# Altium footprint library Jump.PcbLib: 91 footprints (part 2 of 6)
Each footprint in its own frame and in the unit in brackets; x right, y up, seen from the top. Pads: shape width x height; smd on the part's side, far side on the other; paste and mask are expansions set on the pad; w line width, h text height; cw(c..) or ccw(c..) is an arc to the next point about the centre after c.
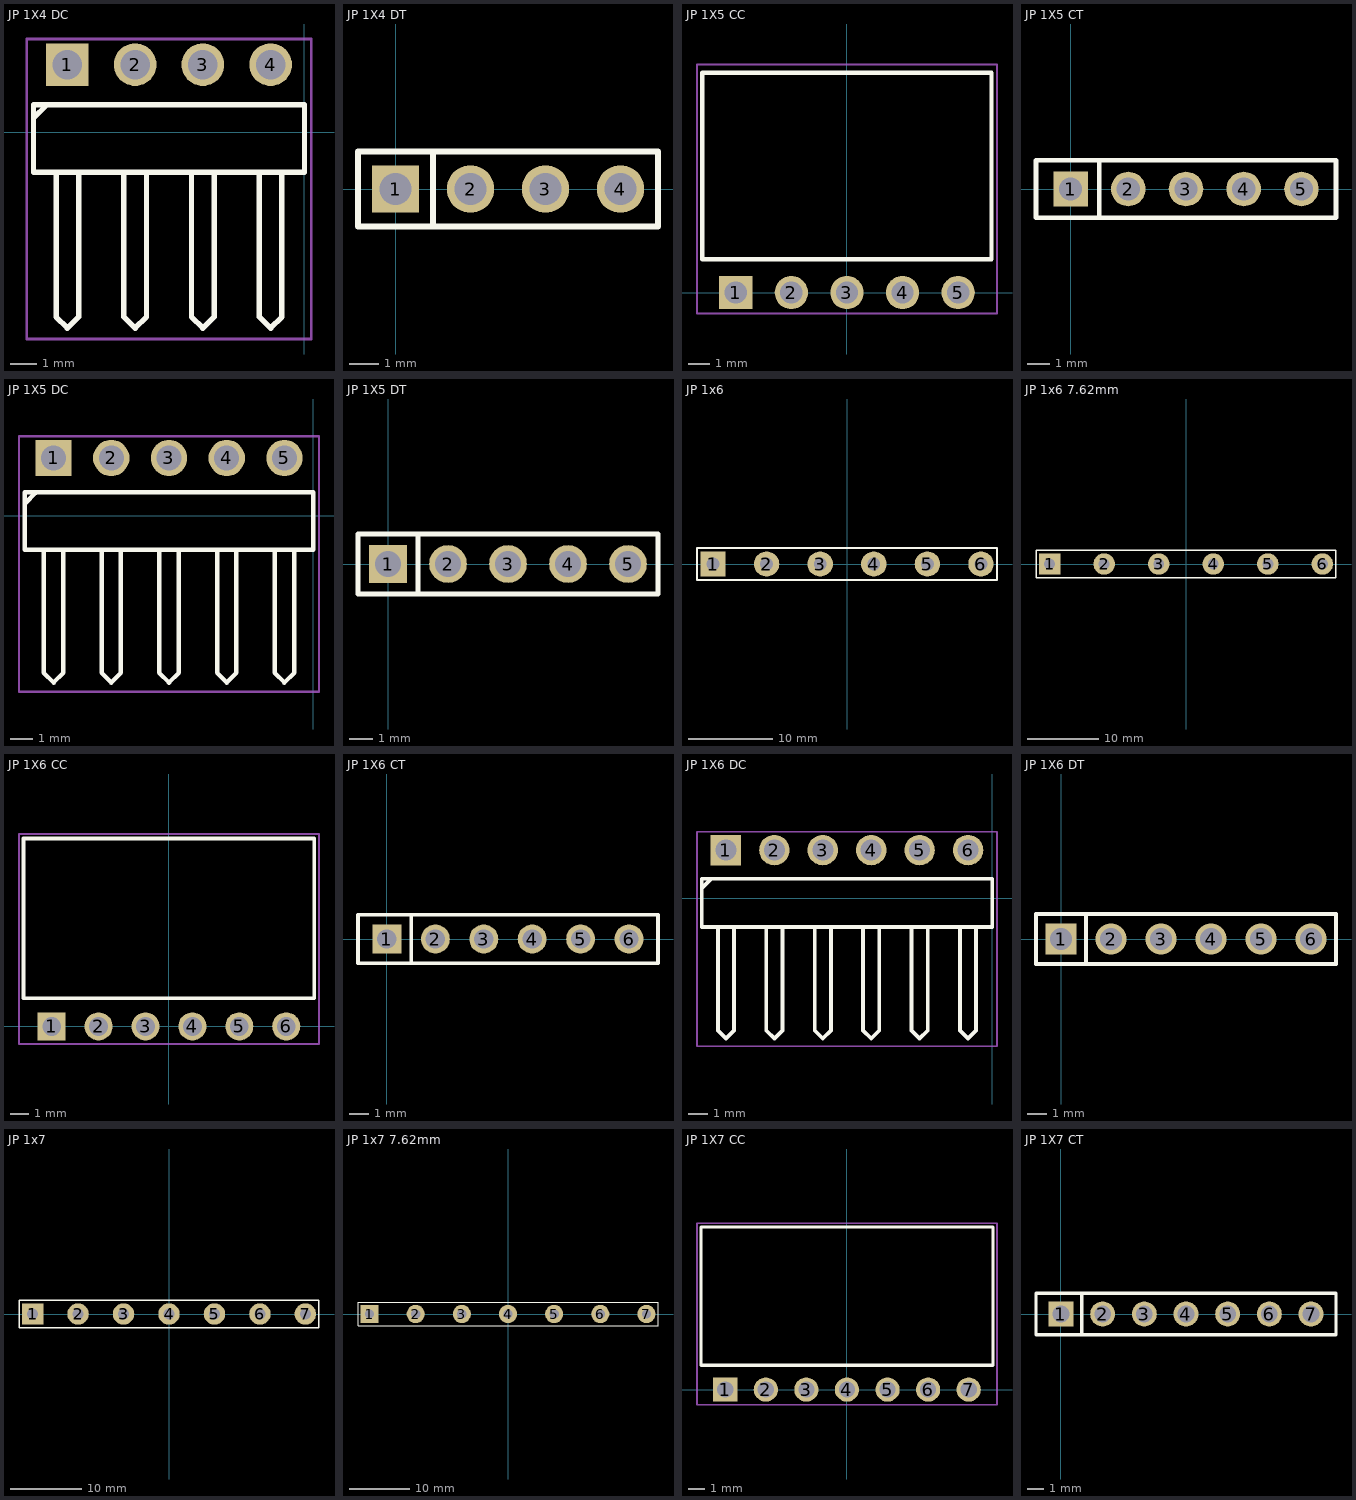
[diagram p1: the footprints below, top view; thin cyan lines are the x and y axes]

## JP 1X4 DC [mm] "4 pins, 1 row, right angled, gold plating"
height 2.54
pads (4):
  rect 1.6x1.6 hole 1.1: 1(-8.89,2.54)
  round 1.6 hole 1.1: 2(-6.35,2.54) 3(-3.81,2.54) 4(-1.27,2.54)
Top Overlay:
  lines w0.2: -10.118,0.574 -9.694,0.998 ; -9.313,-1.525 -9.313,-6.919 -8.89,-7.342 -8.467,-6.919 -8.467,-1.5 ; -6.773,-1.525 -6.773,-6.919 -6.35,-7.342 -5.927,-6.919 -5.927,-1.525 ; -4.233,-1.525 -4.233,-6.919 -3.81,-7.342 -3.387,-6.919 -3.387,-1.5 ; -1.693,-1.525 -1.693,-6.919 -1.27,-7.342 -0.847,-6.919 -0.847,-1.525 ; -10.16,-1.5 0,-1.5 0,1.04 -10.16,1.04 -10.16,-1.5
Mechanical 15:
  lines w0.1: -10.41,-7.75 -10.41,3.5 0.25,3.5 0.25,-7.75 -10.41,-7.75
3D body "61300411021.stp": height 2.54, standoff -3, extent -10.16,-7.566 0,2.794

## JP 1X4 DT [mm] "4 pins, 1 row, straight, gold plating"
height 8.54
pads (4):
  rect 1.6x1.6 hole 1.1: 1(0,0)
  round 1.6 hole 1.1: 2(2.54,0) 3(5.08,0) 4(7.62,0)
Top Overlay:
  lines w0.2: 1.27,-1.27 1.27,1.27 ; -1.27,-1.27 8.89,-1.27 8.89,1.27 -1.27,1.27 -1.27,-1.27
3D body "61300411121.stp": height 8.54, standoff -3, extent -1.27,-1.27 8.89,1.27

## JP 1X5 CC [mm]
height 2.5
pads (5):
  rect 1.52x1.52 hole 1.02: 1(-5.08,0)
  round 1.52 hole 1.02: 2(-2.54,0) 3(0,0) 4(2.54,0) 5(5.08,0)
Top Overlay:
  lines w0.2: -6.604,1.524 -6.604,10.046 6.604,10.046 6.604,1.524 -6.604,1.524
Mechanical 15:
  lines w0.1: -6.85,-0.96 -6.85,10.423 6.854,10.423 6.854,-0.96 -6.85,-0.96
3D body "613005143121.stp": height 2.51, standoff -3.08, extent -6.6,-0.254 6.6,10.046

## JP 1X5 CT [mm]
height 8.5
pads (5):
  rect 1.52x1.52 hole 1.02: 1(0,0)
  round 1.52 hole 1.02: 2(2.54,0) 3(5.08,0) 4(7.62,0) 5(10.16,0)
Top Overlay:
  lines w0.2: 1.27,-1.27 1.27,1.27 ; -1.52,-1.27 -1.52,1.27 11.68,1.27 11.68,-1.27 -1.52,-1.27
3D body "61300511821.stp": height 8.51, standoff -3.09, extent -1.52,-1.25 11.68,1.25

## JP 1X5 DC [mm] "5 pins, 1 row, right angled, gold plating"
height 2.54
pads (5):
  rect 1.6x1.6 hole 1.1: 1(-11.43,2.54)
  round 1.6 hole 1.1: 2(-8.89,2.54) 3(-6.35,2.54) 4(-3.81,2.54) 5(-1.27,2.54)
Top Overlay:
  lines w0.2: -12.658,0.574 -12.234,0.998 ; -11.853,-1.525 -11.853,-6.919 -11.43,-7.342 -11.007,-6.919 -11.007,-1.5 ; -9.313,-1.525 -9.313,-6.919 -8.89,-7.342 -8.467,-6.919 -8.467,-1.525 ; -6.773,-1.525 -6.773,-6.919 -6.35,-7.342 -5.927,-6.919 -5.927,-1.5 ; -4.233,-1.525 -4.233,-6.919 -3.81,-7.342 -3.387,-6.919 -3.387,-1.525 ; -1.693,-1.525 -1.693,-6.919 -1.27,-7.342 -0.847,-6.919 -0.847,-1.5 ; -12.7,-1.5 0,-1.5 0,1.04 -12.7,1.04 -12.7,-1.5
Mechanical 15:
  lines w0.1: -12.95,-7.75 -12.95,3.5 0.25,3.5 0.25,-7.75 -12.95,-7.75
3D body "61300511021.stp": height 2.55, standoff -2.99, extent -12.7,-7.524 0,2.836

## JP 1X5 DT [mm] "5 pins, 1 row, straight, gold plating"
height 8.54
pads (5):
  rect 1.6x1.6 hole 1.1: 1(0,0)
  round 1.6 hole 1.1: 2(2.54,0) 3(5.08,0) 4(7.62,0) 5(10.16,0)
Top Overlay:
  lines w0.2: 1.27,-1.27 1.27,1.27 ; -1.27,-1.27 -1.27,1.27 11.43,1.27 11.43,-1.27 -1.27,-1.27
3D body "61300511121.stp": height 8.54, standoff -3, extent -1.27,-1.27 11.43,1.27

## JP 1x6 [mm]
pads (6):
  rect 3x3 hole 1.524: 1(-15.875,0)
  round 3 hole 1.524: 2(-9.525,0) 3(-3.175,0) 4(3.175,0) 5(9.525,0) 6(15.875,0)
Top Overlay:
  lines w0.203: -17.78,-1.905 17.78,-1.905 17.78,1.905 -17.78,1.905 -17.78,-1.905

## JP 1x6 7.62mm [mm]
pads (6):
  rect 3x3 hole 1.524: 1(-19.05,0)
  round 3 hole 1.524: 2(-11.43,0) 3(-3.81,0) 4(3.81,0) 5(11.43,0) 6(19.05,0)
Top Overlay:
  lines w0.203: -20.955,-1.905 20.955,-1.905 20.955,1.905 -20.955,1.905 -20.955,-1.905

## JP 1X6 CC [mm] "06p 1 row Right angle"
height 2.5
pads (6):
  rect 1.52x1.52 hole 1.02: 1(-6.35,0)
  round 1.52 hole 1.02: 2(-3.81,0) 3(-1.27,0) 4(1.27,0) 5(3.81,0) 6(6.35,0)
Top Overlay:
  lines w0.2: -7.874,1.524 -7.874,10.173 7.874,10.173 7.874,1.524 -7.874,1.524
Mechanical 15:
  lines w0.1: -8.12,-0.96 8.124,-0.96 8.124,10.423 -8.12,10.423 -8.12,-0.96
3D body "613006143121.stp": height 2.51, standoff -3.08, extent -7.87,-0.208 7.87,10.092

## JP 1X6 CT [mm] "6 row, straight, gold plating"
height 8.5
pads (6):
  rect 1.52x1.52 hole 1.02: 1(0,0)
  round 1.52 hole 1.02: 2(2.54,0) 3(5.08,0) 4(7.62,0) 5(10.16,0) 6(12.7,0)
Top Overlay:
  lines w0.2: 1.27,-1.27 1.27,1.27 ; -1.52,-1.27 -1.52,1.27 14.22,1.27 14.22,-1.27 -1.52,-1.27
3D body "61300611821.stp": height 8.51, standoff -3.09, extent -1.52,-1.25 14.22,1.25

## JP 1X6 DC [mm] "6 pins, 1 row, right angled, gold plating"
height 2.54
pads (6):
  rect 1.6x1.6 hole 1.1: 1(-13.97,2.54)
  round 1.6 hole 1.1: 2(-11.43,2.54) 3(-8.89,2.54) 4(-6.35,2.54) 5(-3.81,2.54) 6(-1.27,2.54)
Top Overlay:
  lines w0.2: -15.198,0.574 -14.774,0.998 ; -14.393,-1.525 -14.393,-6.919 -13.97,-7.342 -13.547,-6.919 -13.547,-1.5 ; -11.853,-1.525 -11.853,-6.919 -11.43,-7.342 -11.007,-6.919 -11.007,-1.525 ; -9.313,-1.525 -9.313,-6.919 -8.89,-7.342 -8.467,-6.919 -8.467,-1.5 ; -6.773,-1.525 -6.773,-6.919 -6.35,-7.342 -5.927,-6.919 -5.927,-1.525 ; -4.233,-1.525 -4.233,-6.919 -3.81,-7.342 -3.387,-6.919 -3.387,-1.5 ; -1.693,-1.525 -1.693,-6.919 -1.27,-7.342 -0.847,-6.919 -0.847,-1.525 ; -15.24,-1.5 0,-1.5 0,1.04 -15.24,1.04 -15.24,-1.5
Mechanical 15:
  lines w0.1: -15.49,-7.75 -15.49,3.5 0.25,3.5 0.25,-7.75 -15.49,-7.75
3D body "61300611021.stp": height 2.54, standoff -3, extent -15.24,-7.524 0,2.836

## JP 1X6 DT [mm] "6 pins, 1 row, straight, gold plating"
height 8.54
pads (6):
  rect 1.6x1.6 hole 1.1: 1(0,0)
  round 1.6 hole 1.1: 2(2.54,0) 3(5.08,0) 4(7.62,0) 5(10.16,0) 6(12.7,0)
Top Overlay:
  lines w0.2: 1.27,-1.27 1.27,1.27 ; -1.27,-1.27 13.97,-1.27 13.97,1.27 -1.27,1.27 -1.27,-1.27
3D body "61300611121.stp": height 8.54, standoff -3, extent -1.27,-1.27 13.97,1.27

## JP 1x7 [mm]
pads (7):
  rect 3x3 hole 1.524: 1(-19.05,0)
  round 3 hole 1.524: 2(-12.7,0) 3(-6.35,0) 4(0,0) 5(6.35,0) 6(12.7,0) 7(19.05,0)
Top Overlay:
  lines w0.203: -20.955,-1.905 20.955,-1.905 20.955,1.905 -20.955,1.905 -20.955,-1.905

## JP 1x7 7.62mm [mm]
pads (7):
  rect 3x3 hole 1.524: 1(-22.86,0)
  round 3 hole 1.524: 2(-15.24,0) 3(-7.62,0) 4(0,0) 5(7.62,0) 6(15.24,0) 7(22.86,0)
Top Overlay:
  lines w0.203: -24.765,-1.905 24.765,-1.905 24.765,1.905 -24.765,1.905 -24.765,-1.905

## JP 1X7 CC [mm] "07p 1 row Right angle"
height 2.5
pads (7):
  rect 1.52x1.52 hole 1.02: 1(-7.62,0)
  round 1.52 hole 1.02: 2(-5.08,0) 3(-2.54,0) 4(0,0) 5(2.54,0) 6(5.08,0) 7(7.62,0)
Top Overlay:
  lines w0.2: -9.144,1.524 -9.144,10.173 9.144,10.173 9.144,1.524 -9.144,1.524
Mechanical 15:
  lines w0.1: -9.39,-0.96 -9.39,10.423 9.394,10.423 9.394,-0.96 -9.39,-0.96
3D body "613007143121.stp": height 2.51, standoff -3.08, extent -9.14,-0.254 9.14,10.046

## JP 1X7 CT [mm] "7 row, straight, gold plating"
height 8.5
pads (7):
  rect 1.52x1.52 hole 1.02: 1(0,0)
  round 1.52 hole 1.02: 2(2.54,0) 3(5.08,0) 4(7.62,0) 5(10.16,0) 6(12.7,0) 7(15.24,0)
Top Overlay:
  lines w0.2: 1.27,-1.27 1.27,1.27 ; -1.52,-1.27 16.76,-1.27 16.76,1.27 -1.52,1.27 -1.52,-1.27
3D body "61300711821.stp": height 8.51, standoff -3.09, extent -1.52,-1.25 16.76,1.25